# Altium schematic symbol library Modules.SchLib: 2 symbols
Pins are listed as number, name and electrical type; pins without a type are passive.

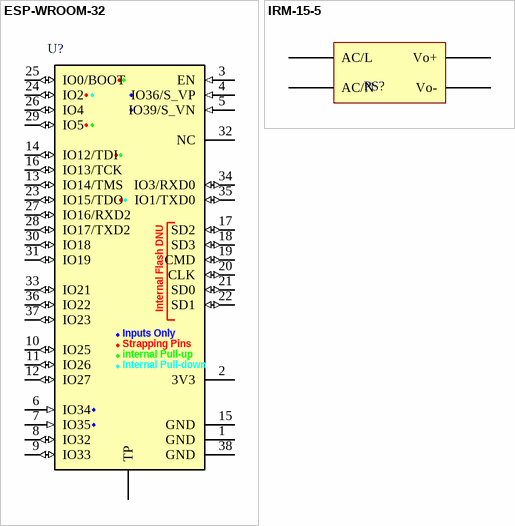
[diagram p0: symbols ESP-WROOM-32 to IRM-15-5]

## ESP-WROOM-32
designator U?, comment Red markers can't be pull up. Blue markers can't be pull down.  (value not drawn)
ESP32 MCU
footprint ESP32­WROOM­32E_EXP
pins: 1 GND (power), 2 3V3 (power), 3 EN (in), 4 IO36/S_VP (in), 5 IO39/S_VN (in), 6 IO34 (in), 7 IO35 (in), 8 IO32 (io), 9 IO33 (io), 10 IO25 (io), 11 IO26 (io), 12 IO27 (io), 13 IO14/TMS (io), 14 IO12/TDI (io), 15 GND (power), 16 IO13/TCK (io), 17 SD2 (io), 18 SD3 (io), 19 CMD (io), 20 CLK (io), 21 SD0 (io), 22 SD1 (io), 23 IO15/TDO (io), 24 IO2 (io), 25 IO0/BOOT (io), 26 IO4 (io), 27 IO16/RXD2 (io), 28 IO17/TXD2 (io), 29 IO5 (io), 30 IO18 (io), 31 IO19 (io), 32 NC, 33 IO21 (io), 34 IO3/RXD0 (io), 35 IO1/TXD0 (io), 36 IO22 (io), 37 IO23 (io), 38 GND (power), TP (power)
text: Internal Flash DNU; Inputs Only; Strapping Pins; internal Pull-up; Internal Pull-down

## IRM-15-5
designator PS?  (value not drawn)
AC/DC 5V@15W MODULE
footprint IRM-15-5 (Power supply ac/dc 5V 15W)
pins: AC/L, AC/N, Vo+, Vo-